# EAGLE library part WE-POEH_EPQ13 (library Wurth_Power Magnetics_WE-POEH)
WE-PoEH Power over Ethernet High Power Transformer Characteristics DFlyback or Forward Transformer Input voltage: 9 V or 33 V to 57 V Switching frequencies: 200-400 kHz Operating temperature: -40°C up to +125°C Insulation test voltage: 1.5 kVAC Different output voltages available Optimized core and bobbin design for 30% more power handling Standard footprint to EP13 Applications PoE and PoE+ powered devices Telecom Industrial applications WLAN acess point Safety cameras The "VALUE"shown for symbol and pakaging is the Output Voltage 1 Output Current 1. <https://katalog.we-online.com/media/images/v2/o14841v209%20Family_WE-PoEH.jpg> Details see: https://katalog.we-online.com/en/pbs/WE-POEH Updated by Yingchun,Shan 2019-08-20 2019 (C) Wurth Elektronik
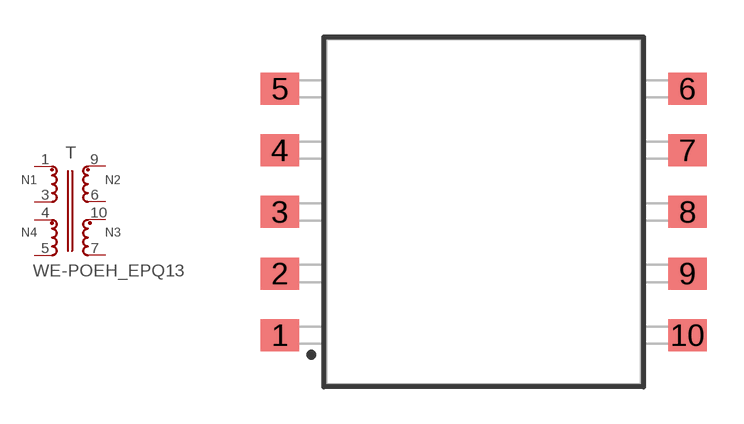
[diagram p0: symbol with the pads of WE-POEH_EPQ13; footprint WE-POEH_EPQ13]

Designator prefix T

## WE-POEH_EPQ13_7491195112 (DATASHEET-URL: https://katalog.we-online.com/pbs/datasheet/7491195112.pdf; IO2: 1,5A; ISAT: 4.2A; L1: 41uH; LSMIN: 0.5uH; N: 2.67:1:1:1; PART-NUMBER: 7491195112; VALUE: 12V 1,5A; VAUX: 12V; VI: 33-57V(DC); VO2: 12V; VT: 1500V(AC)), WE-POEH_EPQ13_7491195212 (DATASHEET-URL: https://katalog.we-online.com/pbs/datasheet/7491195212.pdf; IO2: 1A; ISAT: 6.3A; L1: 21uH; LSMIN: 0.3uH; N: 1.33:1:1:0.89; PART-NUMBER: 7491195212; VALUE: 12V 1A; VAUX: 10V; VI: 9-57V(DC); VO2: 12V; VT: 1500V(AC)), WE-POEH_EPQ13_7491195224 (DATASHEET-URL: https://katalog.we-online.com/pbs/datasheet/7491195224.pdf; IO2: 0,5A; ISAT: 6.3A; L1: 21uH; LSMIN: 0.3uH; N: 0,67:1:1:0.89; PART-NUMBER: 7491195224; VALUE: 24V 0,5A; VAUX: 10V; VI: 9-57V(DC); VO2: 24V; VT: 1500V(AC)), WE-POEH_EPQ13_749119533 (DATASHEET-URL: https://katalog.we-online.com/pbs/datasheet/749119533.pdf; IO2: 3.5A; ISAT: 3.2A; L1: 54uH; LSMIN: 0.8uH; N: 8:1:1:3; PART-NUMBER: 749119533; VALUE: 3.3V 3.5A; VAUX: 10V; VI: 33-57V(DC); VO2: 3.3V; VT: 1500V(AC)), WE-POEH_EPQ13_7491195331 (DATASHEET-URL: https://katalog.we-online.com/pbs/datasheet/7491195331.pdf; IO2: 3.2A; ISAT: 6.2A; L1: 21uH; LSMIN: 0.3uH; N: 4:1:1:3; PART-NUMBER: 7491195331; VALUE: 3.3V 3.2A; VAUX: 10V; VI: 9-57V(DC); VO2: 3.3V; VT: 1500V(AC)), WE-POEH_EPQ13_749119550 (DATASHEET-URL: https://katalog.we-online.com/pbs/datasheet/749119550.pdf; IO2: 3A; ISAT: 3.6A; L1: 48uH; LSMIN: 0.7uH; N: 5.33:1:1:2; PART-NUMBER: 749119550; VALUE: 5V 3A; VAUX: 10V; VI: 33-57V(DC); VO2: 5V; VT: 1500V(AC)), WE-POEH_EPQ13_7491195501 (DATASHEET-URL: https://katalog.we-online.com/pbs/datasheet/7491195501.pdf; IO2: 2.2A; ISAT: 6.2A; L1: 21uH; LSMIN: 0.3uH; N: 3:1:1:2; PART-NUMBER: 7491195501; VALUE: 5V 2.2A; VAUX: 10V; VI: 9-57V(DC); VO2: 5V; VT: 1500V(AC)), WE-POEH_EPQ13_7491196112 (DATASHEET-URL: https://katalog.we-online.com/pbs/datasheet/7491196112.pdf; IO2: 2.5A; ISAT: 1A; L1: 100uH; LSMIN: 0.5uH; N: 1.71:1:1:0.86; PART-NUMBER: 7491196112; VALUE: 12V 2.5A; VAUX: 10V; VI: 33-57V(DC); VO2: 12V; VT: 1500V(AC)), WE-POEH_EPQ13_7491196212 (DATASHEET-URL: https://katalog.we-online.com/pbs/datasheet/7491196212.pdf; IO2: 1.6A; ISAT: 0.3A; L1: 128uH; LSMIN: 0.3uH; N: 0.47:1:1:0.82; PART-NUMBER: 7491196212; VALUE: 12V 1.6A; VAUX: 10V; VI: 9-57V(DC); VO2: 12V; VT: 1500V(AC)), WE-POEH_EPQ13_749119633 (DATASHEET-URL: https://katalog.we-online.com/pbs/datasheet/749119633.pdf; IO2: 8A; ISAT: 1A; L1: 100uH; LSMIN: 0.5uH; N: 6:1:1:3; PART-NUMBER: 749119633; VALUE: 3.3V 8A; VAUX: 10V; VI: 33-57V(DC); VO2: 3.3V; VT: 1500V(AC)), WE-POEH_EPQ13_7491196331 (DATASHEET-URL: https://katalog.we-online.com/pbs/datasheet/7491196331.pdf; IO2: 5.5A; ISAT: 1.1A; L1: 128uH; LSMIN: 0.5uH; N: 3.2:1:1:2.8; PART-NUMBER: 7491196331; VALUE: 3.3V 5.5A; VAUX: 10V; VI: 9-57V(DC); VO2: 3.3V; VT: 1500V(AC)), WE-POEH_EPQ13_749119650 (DATASHEET-URL: https://katalog.we-online.com/pbs/datasheet/749119650.pdf; IO2: 7A; ISAT: 1A; L1: 100uH; LSMIN: 0.5uH; N: 4:1:1:2; PART-NUMBER: 749119650; VALUE: 5V 7A; VAUX: 10V; VI: 33-57V(DC); VO2: 5V; VT: 1500V(AC)), WE-POEH_EPQ13_7491196501 (DATASHEET-URL: https://katalog.we-online.com/pbs/datasheet/7491196501.pdf; IO2: 3.5A; ISAT: 0.3A; L1: 128uH; LSMIN: 0.3uH; N: 1.14:1:1:2; PART-NUMBER: 7491196501; VALUE: 5V 3.5A; VAUX: 10V; VI: 9-57V(DC); VO2: 5V; VT: 1500V(AC))  [WE-POEH_EPQ13]
1  1  pas
3  2  pas
4  3  pas
5  4  pas
6  7  pas
7  5  pas
9  8  pas
10  6  pas

## Footprint WE-POEH_EPQ13 (pad centres in mm)
WE-PoEH Power over Ethernet High Power Transformer Size: EPQ13 SMD 10Pin
smd 1.55 x 1.3: 1 -8.275,-5; 2 -8.275,-2.5; 3 -8.275,0; 4 -8.275,2.5; 5 -8.275,5; 6 8.275,5; 7 8.275,2.5; 8 8.275,0; 9 8.275,-2.5; 10 8.275,-5